# EAGLE library part DPDT.CL-SB-22B-11T (library CalvEngIO-Switches)
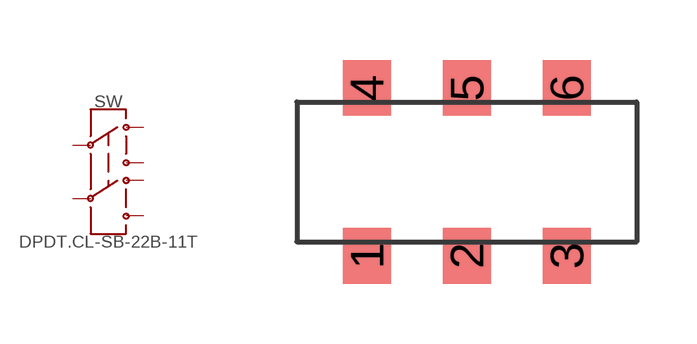
[diagram p3: symbol with the pads of CL-SB-22B-11; footprint CL-SB-22B-11]

Designator prefix SW

## DPDT.CL-SB-22B-11T  [CL-SB-22B-11]
1  1
2  2
3  3
4  4
5  5
6  6

## Footprint CL-SB-22B-11 (pad centres in mm)
smd 1.2 x 1.4: 1 -2.5,-2.1; 2 0,-2.1; 3 2.5,-2.1; 4 -2.5,2.1; 5 0,2.1; 6 2.5,2.1